# EAGLE library part RT8289 (library Toybox)
RT8289GSP - Step-Down Regulator "Buck Converter" Technical Specifications: 5A Max Output 5.5V - 32V Input 1.2V - 26V Output
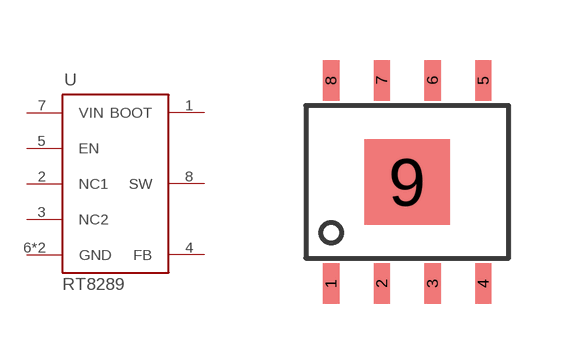
[diagram p0: symbol with the pads of RT8289-SOP-8; footprint RT8289-SOP-8]

Designator prefix U

## RT8289  [RT8289-SOP-8]
1  BOOT
2  NC1  nc
3  NC2  nc
4  FB  in
5  EN  in
6  GND  pwr
7  VIN  pwr
8  SW  sup
9  GND  pwr

## Footprint RT8289-SOP-8 (pad centres in mm)
RT8289 http://www.richtek.com/assets/product_file/RT8289/DS8289-02.pdf
smd 0.406 x 1.016: 1 -1.905,-2.54; 2 -0.635,-2.54; 3 0.635,-2.54; 4 1.905,-2.54; 5 1.905,2.54; 6 0.635,2.54; 7 -0.635,2.54; 8 -1.905,2.54
smd 2.134 x 2.134: 9 0,0